# Altium schematic symbol library 2019-07-21_03-39-47.SchLib: 12 symbols
Pins are listed as number, name and electrical type; pins without a type are passive.

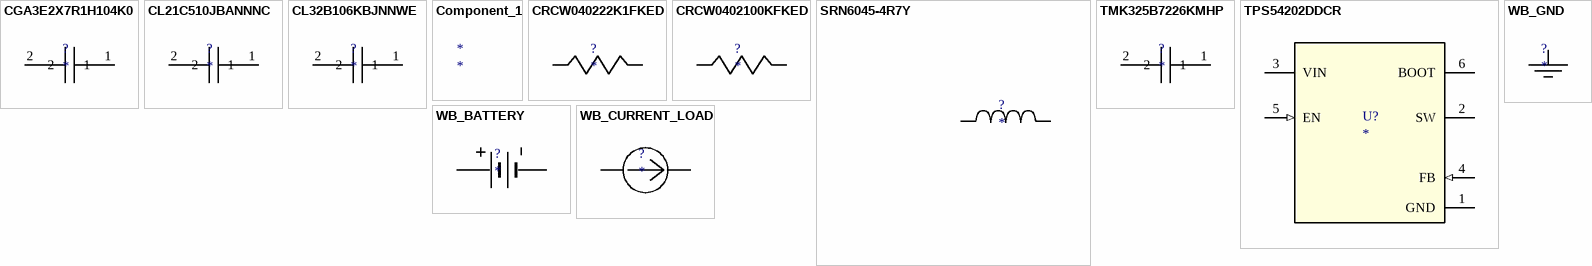
[diagram p0: symbols CGA3E2X7R1H104K0 to WB_GND]

## CGA3E2X7R1H104K0
designator ?
Imported; Manufacturer_Part_Number: CGA3E2X7R1H104K080AA; Vendor: TDK; Manufacturer_Name: TDK; RefDes: RefDes; TYPE: TYPE; Value: Value
footprint 0603
pins: 1, 2

## CL21C510JBANNNC
designator ?
Imported; Manufacturer_Part_Number: CL21C510JBANNNC; Vendor: Samsung Electro-Mechanics; Manufacturer_Name: Samsung Electro-Mechanics; RefDes: RefDes; TYPE: TYPE; Value: Value
footprint 0805
pins: 1, 2

## CL32B106KBJNNWE
designator ?
Imported; Manufacturer_Part_Number: CL32B106KBJNNWE; Vendor: Samsung Electro-Mechanics; Manufacturer_Name: Samsung Electro-Mechanics; RefDes: RefDes; TYPE: TYPE; Value: Value
footprint 1210_270
pins: 1, 2

## Component_1
designator *

## CRCW040222K1FKED
designator ?
Imported; Manufacturer_Part_Number: CRCW040222K1FKED; Vendor: Vishay-Dale; Manufacturer_Name: Vishay-Dale; RefDes: RefDes; TYPE: TYPE; Value: Value
footprint 0402
pins: 1, 2

## CRCW0402100KFKED
designator ?
Imported; Manufacturer_Part_Number: CRCW0402100KFKED; Vendor: Vishay-Dale; Manufacturer_Name: Vishay-Dale; RefDes: RefDes; TYPE: TYPE; Value: Value
footprint 0402
pins: 1, 2

## SRN6045-4R7Y
designator ?
Imported; Manufacturer_Part_Number: SRN6045-4R7Y; Vendor: Bourns; Manufacturer_Name: Bourns; RefDes: RefDes; TYPE: TYPE; Value: Value
footprint SRN6045
pins: 1, 2

## TMK325B7226KMHP
designator ?
Imported; Manufacturer_Part_Number: TMK325B7226KMHP; Vendor: Taiyo Yuden; Manufacturer_Name: Taiyo Yuden; RefDes: RefDes; TYPE: TYPE; Value: Value
footprint 1210_270
pins: 1, 2

## TPS54202DDCR
designator U?
Imported; Manufacturer: Texas Instruments; PartNumber: TPS54202DDCR; RefDes: RefDes; TYPE: TYPE; Value: Value; Manufacturer_Part_Number: TPS54202DDCR; Manufacturer_Name: Texas Instruments
footprint DDC0006A_N
pins: 1 GND (power), 2 SW (power), 3 VIN (power), 4 FB (in), 5 EN (in), 6 BOOT (power)

## WB_BATTERY
designator ?
Imported; Manufacturer_Part_Number: WB_BATTERY; PowerPortType: POWER_GROUND; Value: Value; Manufacturer_Name: WB_BATTERY; RefDes: RefDes; TYPE: TYPE
pins: 1 +, 2 -

## WB_CURRENT_LOAD
designator ?
Imported; Manufacturer_Part_Number: WB_CURRENT_LOAD; PowerPortType: POWER_GROUND; Value: Value; Manufacturer_Name: WB_CURRENT_LOAD; RefDes: RefDes; TYPE: TYPE
pins: 1 +, 2 -

## WB_GND
designator ?
Imported; Manufacturer_Part_Number: WB_GND; PowerPortType: POWER_GROUND; Value: Value; Manufacturer_Name: WB_GND; RefDes: RefDes; TYPE: TYPE
pins: 1